# Altium footprint library 21-Transistor.PcbLib: 90 footprints (part 1 of 6)
Each footprint in its own frame and in the unit in brackets; x right, y up, seen from the top. Pads: shape width x height; smd on the part's side, far side on the other; paste and mask are expansions set on the pad; w line width, h text height; cw(c..) or ccw(c..) is an arc to the next point about the centre after c.
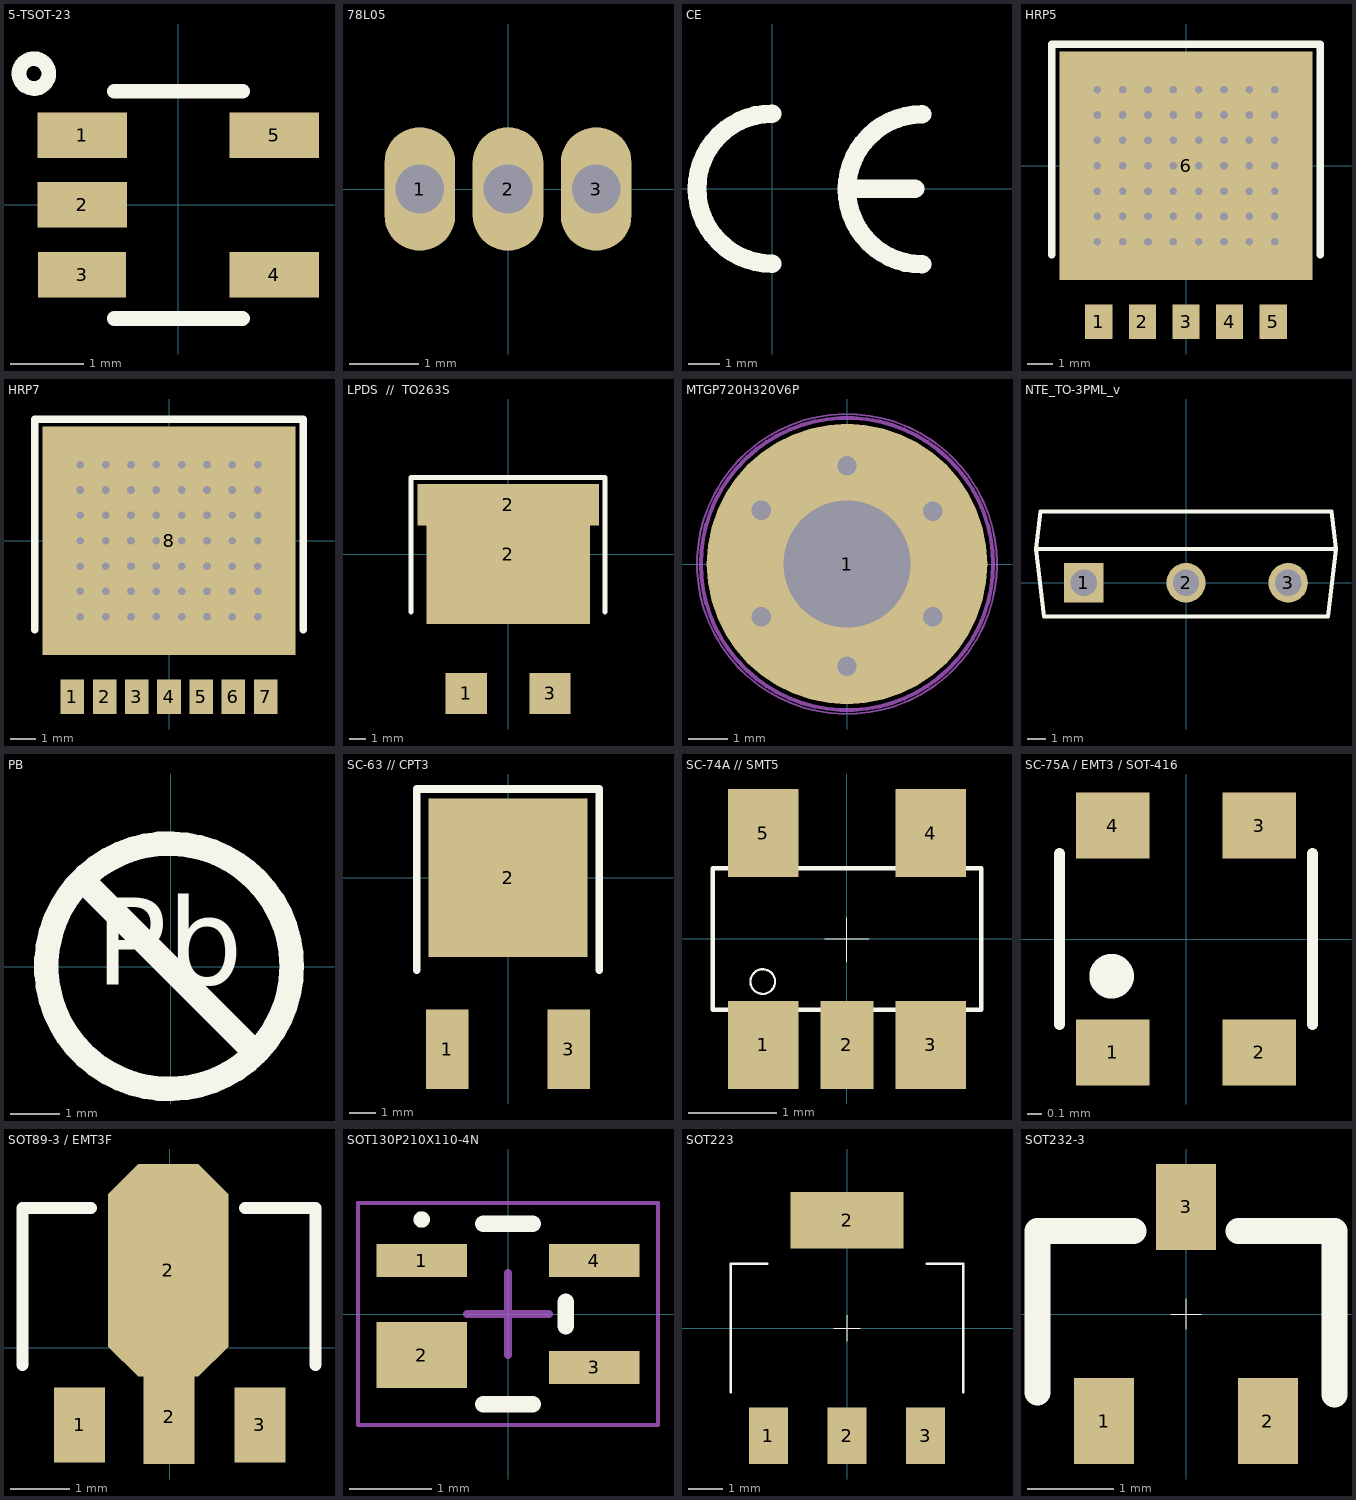
[diagram p0: the footprints below, top view; thin cyan lines are the x and y axes]

## 5-TSOT-23 [mm]
height 31
pads (5):
  rect 1.22x0.62 smd mask+0.07: 1(-1.31,0.95) 2(-1.31,0) 4(1.31,-0.95)
  rect 1.2x0.62 smd mask+0.07: 3(-1.31,-0.95)
  rect 1.22x0.62 smd: 5(1.31,0.95)
Top Overlay:
  circle w0.2: c-1.968,1.791 r0.203
  lines w0.2: -0.874,-1.549 0.876,-1.549 ; -0.874,1.549 0.876,1.549
Mechanical 1:
3D body "1_22-0_4-lt3060.stp": height 0.02, standoff 0, extent -1.919,-1.156 -0.699,-0.756
3D body "1_22-0_4-lt3060.stp": height 0.02, standoff 0, extent -1.931,-0.2 -0.711,0.2
3D body "1_22-0_4-lt3060.stp": height 0.02, standoff 0, extent -1.918,0.775 -0.698,1.175
3D body "1_22-0_4-lt3060.stp": height 0.02, standoff 0, extent 0.698,-1.168 1.918,-0.768
3D body "1_22-0_4-lt3060.stp": height 0.02, standoff 0, extent 0.699,0.775 1.919,1.175
3D body "tsot-23-5.stp": height 1, standoff 0.01, extent -1.473,-1.45 1.477,1.45

## 78L05 [mil]
height 1220.47
pads (3):
  oval 40x70 hole 27.56: 1(-50,0)
  oval 40x70 hole 27.56 mask+2.76: 2(0,0) 3(50,0)
3D body "to-92b.stp": height 314.96, standoff -66.93, extent -92.01,-91.75 92,32.89
3D body "to92b.stp": height 0.39, standoff -41.34, extent -70,-34.84 -30,34.84
3D body "to92by.stp": height 1.97, standoff -41.34, extent -20,-34.84 20,34.84
3D body "to92by.stp": height 1.97, standoff -41.34, extent 30,-34.84 70,34.84

## CE [mm]
Top Overlay:
  lines w0.6: 0,-2.413 cw(c0,0) 0,2.413 ; 2.53,0 4.6,0 ; 4.826,-2.438 cw(c4.826,-0.025) 4.826,2.388
3D body "ce.stp": height 0.02, standoff 0, extent -2.725,-2.725 4.82,2.725

## HRP5 [mm]
height 31
pads (6):
  rect 1.07x1.37 smd: 1(-3.44,-6.15) 2(-1.72,-6.15) 3(0,-6.15) 4(1.72,-6.15) 5(3.44,-6.15)
  rect 10x9 smd: 6(0,0)
via 2.5,0 diameter 0.5 hole 0.3
via 1.5,0 diameter 0.5 hole 0.3
via 0.5,0 diameter 0.5 hole 0.3
via 3.5,0 diameter 0.5 hole 0.3
via 3.5,-1 diameter 0.5 hole 0.3
via 0.5,-1 diameter 0.5 hole 0.3
via 1.5,-1 diameter 0.5 hole 0.3
via 2.5,-1 diameter 0.5 hole 0.3
via 3.5,-2 diameter 0.5 hole 0.3
via 0.5,-2 diameter 0.5 hole 0.3
via 1.5,-2 diameter 0.5 hole 0.3
via 2.5,-2 diameter 0.5 hole 0.3
via 3.5,-3 diameter 0.5 hole 0.3
via 0.5,-3 diameter 0.5 hole 0.3
via 1.5,-3 diameter 0.5 hole 0.3
via 2.5,-3 diameter 0.5 hole 0.3
via 3.5,1 diameter 0.5 hole 0.3
via 0.5,1 diameter 0.5 hole 0.3
via 1.5,1 diameter 0.5 hole 0.3
via 2.5,1 diameter 0.5 hole 0.3
via 3.5,2 diameter 0.5 hole 0.3
via 0.5,2 diameter 0.5 hole 0.3
via 1.5,2 diameter 0.5 hole 0.3
via 2.5,2 diameter 0.5 hole 0.3
via 3.5,3 diameter 0.5 hole 0.3
via 0.5,3 diameter 0.5 hole 0.3
via 1.5,3 diameter 0.5 hole 0.3
via 2.5,3 diameter 0.5 hole 0.3
via -1.5,3 diameter 0.5 hole 0.3
via -2.5,3 diameter 0.5 hole 0.3
via -3.5,3 diameter 0.5 hole 0.3
via -0.5,3 diameter 0.5 hole 0.3
via -1.5,2 diameter 0.5 hole 0.3
via -2.5,2 diameter 0.5 hole 0.3
via -3.5,2 diameter 0.5 hole 0.3
via -0.5,2 diameter 0.5 hole 0.3
via -1.5,1 diameter 0.5 hole 0.3
via -2.5,1 diameter 0.5 hole 0.3
via -3.5,1 diameter 0.5 hole 0.3
via -0.5,1 diameter 0.5 hole 0.3
via -1.5,-3 diameter 0.5 hole 0.3
via -2.5,-3 diameter 0.5 hole 0.3
via -3.5,-3 diameter 0.5 hole 0.3
via -0.5,-3 diameter 0.5 hole 0.3
via -1.5,-2 diameter 0.5 hole 0.3
via -2.5,-2 diameter 0.5 hole 0.3
via -3.5,-2 diameter 0.5 hole 0.3
via -0.5,-2 diameter 0.5 hole 0.3
via -1.5,-1 diameter 0.5 hole 0.3
via -2.5,-1 diameter 0.5 hole 0.3
via -3.5,-1 diameter 0.5 hole 0.3
via -0.5,-1 diameter 0.5 hole 0.3
via -0.5,0 diameter 0.5 hole 0.3
via -3.5,0 diameter 0.5 hole 0.3
via -2.5,0 diameter 0.5 hole 0.3
via -1.5,0 diameter 0.5 hole 0.3
Top Overlay:
  lines w0.3: -5.3,-3.5 -5.3,4.8 5.3,4.8 5.3,-3.5
3D body "hrp5.stp": height 1.91, standoff 0, extent -4.7,-6.5 4.695,4.04

## HRP7 [mm]
height 31
pads (8):
  rect 0.93x1.37 smd: 1(-3.81,-6.15) 2(-2.54,-6.15) 3(-1.27,-6.15) 4(0,-6.15) 5(1.27,-6.15) 6(2.54,-6.15) 7(3.81,-6.15)
  rect 10x9 smd: 8(0,0)
via -1.5,0 diameter 0.5 hole 0.3
via -2.5,0 diameter 0.5 hole 0.3
via -3.5,0 diameter 0.5 hole 0.3
via -0.5,0 diameter 0.5 hole 0.3
via -0.5,-1 diameter 0.5 hole 0.3
via -3.5,-1 diameter 0.5 hole 0.3
via -2.5,-1 diameter 0.5 hole 0.3
via -1.5,-1 diameter 0.5 hole 0.3
via -0.5,-2 diameter 0.5 hole 0.3
via -3.5,-2 diameter 0.5 hole 0.3
via -2.5,-2 diameter 0.5 hole 0.3
via -1.5,-2 diameter 0.5 hole 0.3
via -0.5,-3 diameter 0.5 hole 0.3
via -3.5,-3 diameter 0.5 hole 0.3
via -2.5,-3 diameter 0.5 hole 0.3
via -1.5,-3 diameter 0.5 hole 0.3
via -0.5,1 diameter 0.5 hole 0.3
via -3.5,1 diameter 0.5 hole 0.3
via -2.5,1 diameter 0.5 hole 0.3
via -1.5,1 diameter 0.5 hole 0.3
via -0.5,2 diameter 0.5 hole 0.3
via -3.5,2 diameter 0.5 hole 0.3
via -2.5,2 diameter 0.5 hole 0.3
via -1.5,2 diameter 0.5 hole 0.3
via -0.5,3 diameter 0.5 hole 0.3
via -3.5,3 diameter 0.5 hole 0.3
via -2.5,3 diameter 0.5 hole 0.3
via -1.5,3 diameter 0.5 hole 0.3
via 2.5,3 diameter 0.5 hole 0.3
via 1.5,3 diameter 0.5 hole 0.3
via 0.5,3 diameter 0.5 hole 0.3
via 3.5,3 diameter 0.5 hole 0.3
via 2.5,2 diameter 0.5 hole 0.3
via 1.5,2 diameter 0.5 hole 0.3
via 0.5,2 diameter 0.5 hole 0.3
via 3.5,2 diameter 0.5 hole 0.3
via 2.5,1 diameter 0.5 hole 0.3
via 1.5,1 diameter 0.5 hole 0.3
via 0.5,1 diameter 0.5 hole 0.3
via 3.5,1 diameter 0.5 hole 0.3
via 2.5,-3 diameter 0.5 hole 0.3
via 1.5,-3 diameter 0.5 hole 0.3
via 0.5,-3 diameter 0.5 hole 0.3
via 3.5,-3 diameter 0.5 hole 0.3
via 2.5,-2 diameter 0.5 hole 0.3
via 1.5,-2 diameter 0.5 hole 0.3
via 0.5,-2 diameter 0.5 hole 0.3
via 3.5,-2 diameter 0.5 hole 0.3
via 2.5,-1 diameter 0.5 hole 0.3
via 1.5,-1 diameter 0.5 hole 0.3
via 0.5,-1 diameter 0.5 hole 0.3
via 3.5,-1 diameter 0.5 hole 0.3
via 3.5,0 diameter 0.5 hole 0.3
via 0.5,0 diameter 0.5 hole 0.3
via 1.5,0 diameter 0.5 hole 0.3
via 2.5,0 diameter 0.5 hole 0.3
Top Overlay:
  lines w0.3: -5.3,-3.5 -5.3,4.8 5.3,4.8 5.3,-3.5
3D body "hrp7.stp": height 1.91, standoff 0, extent -4.7,-6.5 4.695,4.042

## LPDS  //  TO263S [mm]
height 31
pads (4):
  rect 2.5x2.5 smd: 1(-2.54,-8.45) 3(2.54,-8.45)
  rect 9.9x8.5 smd: 2(0,0)
  rect 11x2.5 smd: 2(0,2.997)
Top Overlay:
  lines w0.3: -5.893,-3.5 -5.893,4.648 5.867,4.648 5.867,-3.5
3D body "lpds.stp": height 4.5, standoff 0, extent -5.075,-9.296 5.025,3.804

## MTGP720H320V6P [mm]
pads (1):
  round 7.2 hole 3.25: 1(0,0)
via 2.2,-1.35 diameter 1 hole 0.5
via 0,-2.625 diameter 1 hole 0.5
via 2.2,1.35 diameter 1 hole 0.5
via 0,2.525 diameter 1 hole 0.5
via -2.2,1.375 diameter 1 hole 0.5
via -2.2,-1.35 diameter 1 hole 0.5
Mechanical 8:
  circle w0.1: c0,0 r3.75
  circle w0.1: c0,0 r2.6
  lines w0.1: -2.657,1.625 -2.224,1.375 ; -2.632,-1.6 -2.199,-1.35 ; -2.474,0.942 -2.224,1.375 ; -2.449,-0.917 -2.199,-1.35 ; -1.974,1.808 -2.224,1.375 ; -1.949,-1.783 -2.199,-1.35 ; -1.791,1.125 -2.224,1.375 ; -1.766,-1.1 -2.199,-1.35 ; -0.5,-2.625 0,-2.625 ; -0.5,0 0,0 ; -0.5,2.525 0,2.525 ; 0,-3.125 0,-2.625 ; 0,-2.125 0,-2.625 ; 0,-0.5 0,0 ; 0,0.5 0,0 ; 0,2.025 0,2.525 ; 0,3.025 0,2.525 ; 0.5,-2.625 0,-2.625 ; 0.5,0 0,0 ; 0.5,2.525 0,2.525 ; 1.766,-1.1 2.199,-1.35 ; 1.766,1.1 2.199,1.35 ; 1.949,-1.783 2.199,-1.35 ; 1.949,1.783 2.199,1.35 ; 2.449,-0.917 2.199,-1.35 ; 2.449,0.917 2.199,1.35 ; 2.632,-1.6 2.199,-1.35 ; 2.632,1.6 2.199,1.35
Mechanical 14:
  circle w0.1: c0,0 r3.75
Mechanical 15:
  circle w0.05: c0,0 r3.85
3D body "mtgp720h320v6p.stp": height 0.1, standoff -1.75, extent -3.627,-3.627 3.628,3.628

## NTE_TO-3PML_v [mm] "NTE TO-3PML 3-Terminal - Vertical Mount"
height 26
pads (3):
  rect 2.1x2.1 hole 1.4: 1(-5.45,0)
  round 2.1 hole 1.4: 2(0,0) 3(5.45,0)
Top Overlay:
  lines w0.2: -8,1.8 -7.76,3.8 0,3.8 7.76,3.8 8,1.8 ; -8,1.8 -7.568,-1.8 0,-1.8 7.568,-1.8 8,1.8 ; -8,1.8 0,1.8 8,1.8
Mechanical 8:
  lines w0.1: -5.95,0 -5.45,0 ; -5.45,-0.5 -5.45,0 ; -5.45,0.5 -5.45,0 ; -4.95,0 -5.45,0 ; -0.5,0 0,0 ; 0,-0.5 0,0 ; 0,0.5 0,0 ; 0.5,0 0,0 ; 4.95,0 5.45,0 ; 5.45,-0.5 5.45,0 ; 5.45,0.5 5.45,0 ; 5.95,0 5.45,0
Mechanical 14:
  lines w0.1: -8,1.8 -7.76,3.8 0,3.8 7.76,3.8 8,1.8 ; -8,1.8 -7.568,-1.8 0,-1.8 7.568,-1.8 8,1.8 ; -8,1.8 0,1.8 8,1.8
3D body "NTE_TO-3PML.stp": height 28, standoff -4, extent -8,-1.8 8,3.8

## PB [mm]
Top Overlay:
  circle w0.5: c-0.031,0.013 r2.5
  lines w0.5: -1.737,1.719 1.675,-1.693
  text "Pb" at -1.536,-0.948 h3.05
3D body "pb.stp": height 0.02, standoff 0, extent -2.725,-2.725 2.725,2.725

## SC-63 // CPT3 [mm]
height 26
pads (3):
  rect 1.6x3 smd: 1(-2.3,-6.5) 3(2.3,-6.5)
  rect 6x6 smd: 2(0,0)
Top Overlay:
  lines w0.3: -3.454,-3.5 -3.454,3.353 3.454,3.353 3.454,-3.5
3D body "sc-63.stp": height 2.3, standoff 0, extent -3.226,-7.315 3.274,2.185

## SC-74A // SMT5 [mm] "smd5"
height 26
pads (5):
  rect 0.8x1 smd mask+0.051: 1(-0.95,-1.2) 3(0.95,-1.2) 4(0.95,1.2) 5(-0.95,1.2)
  rect 0.6x1 smd mask+0.051: 2(0,-1.2)
Top Overlay:
  circle w0.025: c-0.955,-0.483 r0.14
  lines w0.001: -0.254,0 0.244,0 ; 0,-0.259 0,0.239
  lines w0.025: -1.161,0.813 -1.161,1.407 -0.757,1.407 -0.757,0.813 ; -1.161,1.049 -0.757,1.049 ; -1.158,-1.041 -0.754,-1.041 ; -1.158,-0.805 -1.158,-1.4 -0.754,-1.4 -0.754,-0.805 ; -0.203,-1.041 0.201,-1.041 ; -0.203,-0.805 -0.203,-1.4 0.201,-1.4 0.201,-0.805 ; 0.747,-1.041 1.151,-1.041 ; 0.747,-0.805 0.747,-1.4 1.151,-1.4 1.151,-0.805 ; 0.747,0.81 0.747,1.405 1.151,1.405 1.151,0.81 ; 0.747,1.046 1.151,1.046
  lines w0.051: -1.524,-0.8 -1.524,0.8 1.524,0.8 1.524,-0.8 -1.524,-0.8
3D body "smd5.stp": height 1.1, standoff 0, extent -1.475,-1.422 1.425,1.378

## SC-75A / EMT3 / SOT-416 [mm]
height 26
pads (4):
  rect 0.5x0.45 smd mask+0.051: 1(-0.5,-0.775) 2(0.5,-0.775) 3(0.5,0.775) 4(-0.5,0.775)
Top Overlay:
  circle w0.254: c-0.508,-0.254 r0.025
  lines w0.076: -0.864,-0.584 -0.864,0.584 ; 0.864,-0.584 0.864,0.584
3D body "emd4.stp": height 0.5, standoff 0, extent -0.8,-0.813 0.8,0.787

## SOT89-3 / EMT3F [mil]
height 1023.62
pads (4):
  rect 34x50 smd: 1(-60,-51.5) 3(60,-51.5)
  oct 80x141.73 smd: 2(-1,51.5)
  rect 34x62.99 smd: 2(-0.36,-46.07)
Top Overlay:
  lines w8: -98,-11.5 -98,93 -52.5,93 ; 50,93 97,93 97,-11.5
3D body "sot89.stp": height 62.99, standoff 0, extent -90.55,-60.32 90.55,107

## SOT130P210X110-4N [mm]
height 1
pads (4):
  rect 1.1x0.4 smd: 1(-1.05,0.65) 3(1.05,-0.65) 4(1.05,0.65)
  rect 1.1x0.8 smd: 2(-1.05,-0.5)
Top Overlay:
  circle w0.1: c-1.05,1.15 r0.05
  lines w0.2: -0.3,-1.1 0.3,-1.1 ; -0.3,1.1 0.3,1.1 ; 0.7,-0.15 0.7,0.15
Mechanical 15:
  lines w0.05: -1.825,-1.35 -1.825,1.35 1.825,1.35 1.825,-1.35 -1.825,-1.35
  lines w0.1: -0.5,0 0.5,0 ; 0,-0.5 0,0.5
3D body "0_4-1_1.stp": height 0.02, standoff 0, extent -1.591,-0.911 -0.491,-0.511
3D body "0_4-1_1.stp": height 0.02, standoff 0, extent -1.591,-0.505 -0.491,-0.105
3D body "0_4-1_1.stp": height 0.02, standoff 0, extent -1.6,0.45 -0.5,0.85
3D body "0_4-1_1.stp": height 0.02, standoff 0, extent 0.5,0.45 1.6,0.85
3D body "0_4-1_1.stp": height 0.02, standoff 0, extent 0.5,-0.85 1.6,-0.45
3D body "umd4.stp": height 0.9, standoff 0, extent -1.05,-1 1.05,1

## SOT223 [mm]
height 1
pads (4):
  rect 1.14x1.65 smd mask+0.051: 1(-2.3,-3.15) 2(0,-3.15) 3(2.3,-3.15)
  rect 3.3x1.65 smd mask+0.051: 2(0,3.15)
Top Overlay:
  lines w0.005: -0.381,0 0.381,0 ; 0,-0.381 0,0.381
  lines w0.076: -3.4,-1.879 -3.4,1.879 -2.337,1.879 ; 2.337,1.879 3.4,1.879 3.4,-1.879
3D body "sot-233_to261aa.stp": height 1.8, standoff 0, extent -3.25,-3.5 3.25,3.5

## SOT232-3 [mm]
height 1
pads (3):
  rect 0.7x1 smd mask+0.051: 1(-0.953,-1.245) 2(0.953,-1.245) 3(0,1.245)
Top Overlay:
  lines w0.005: -0.178,0 0.178,0 ; 0,-0.178 0,0.178
  lines w0.3: -1.727,-0.914 -1.727,0.965 -0.61,0.965 ; 0.61,0.965 1.727,0.965 1.727,-0.94
3D body "sot23-3.stp": height 1.1, standoff 0.01, extent -1.55,-1.501 1.55,1.499